# Altium footprint library CONN IPL1-104-02-X-D.PcbLib: 1 footprints
Each footprint in its own frame and in the unit in brackets; x right, y up, seen from the top. Pads: shape width x height; smd on the part's side, far side on the other; paste and mask are expansions set on the pad; w line width, h text height; cw(c..) or ccw(c..) is an arc to the next point about the centre after c.
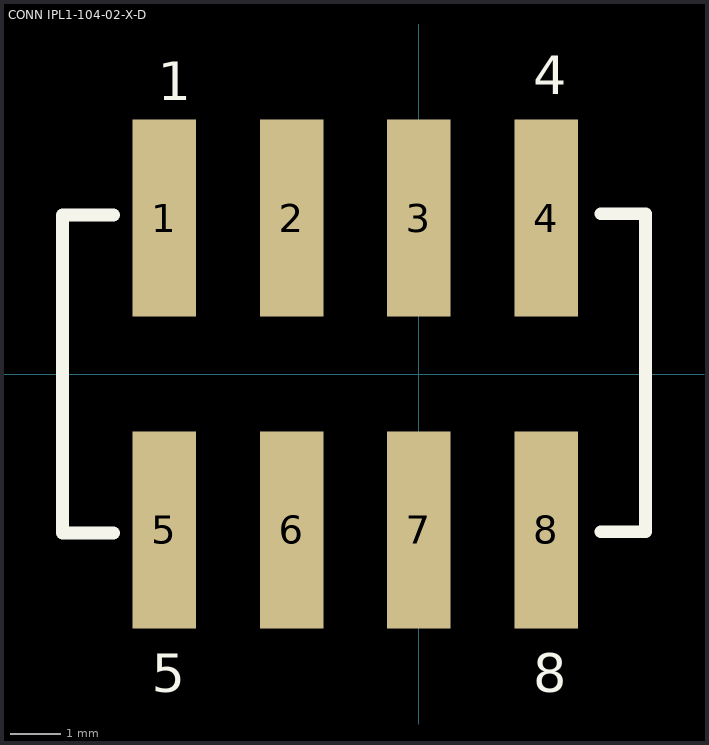
[diagram p0: the footprint, top view; thin cyan lines are the x and y axes]

## CONN IPL1-104-02-X-D [mil]
pads (8):
  rect 50x155 smd: 1(-200,122.5) 2(-100,122.5) 3(0,122.5) 4(100,122.5) 5(-200,-122.5) 6(-100,-122.5) 7(0,-122.5) 8(100,-122.5)
Top Overlay:
  lines w10: -240,-125 -280,-125 -280,125 -240,125 ; 143.01,-123.99 178.01,-123.99 178.01,126.01 143.01,126.01
  text "8" at 90,-250 h30
  text "5" at -210,-250 h30
  text "4" at 90,220 h30
  text "1" at -205,215 h30
3D body: height 345, standoff 0, extent -279.99,-188.49 180.01,188.51